# Altium footprint library Capacitor.PcbLib: 34 footprints (part 2 of 3)
Each footprint in its own frame and in the unit in brackets; x right, y up, seen from the top. Pads: shape width x height; smd on the part's side, far side on the other; paste and mask are expansions set on the pad; w line width, h text height; cw(c..) or ccw(c..) is an arc to the next point about the centre after c.
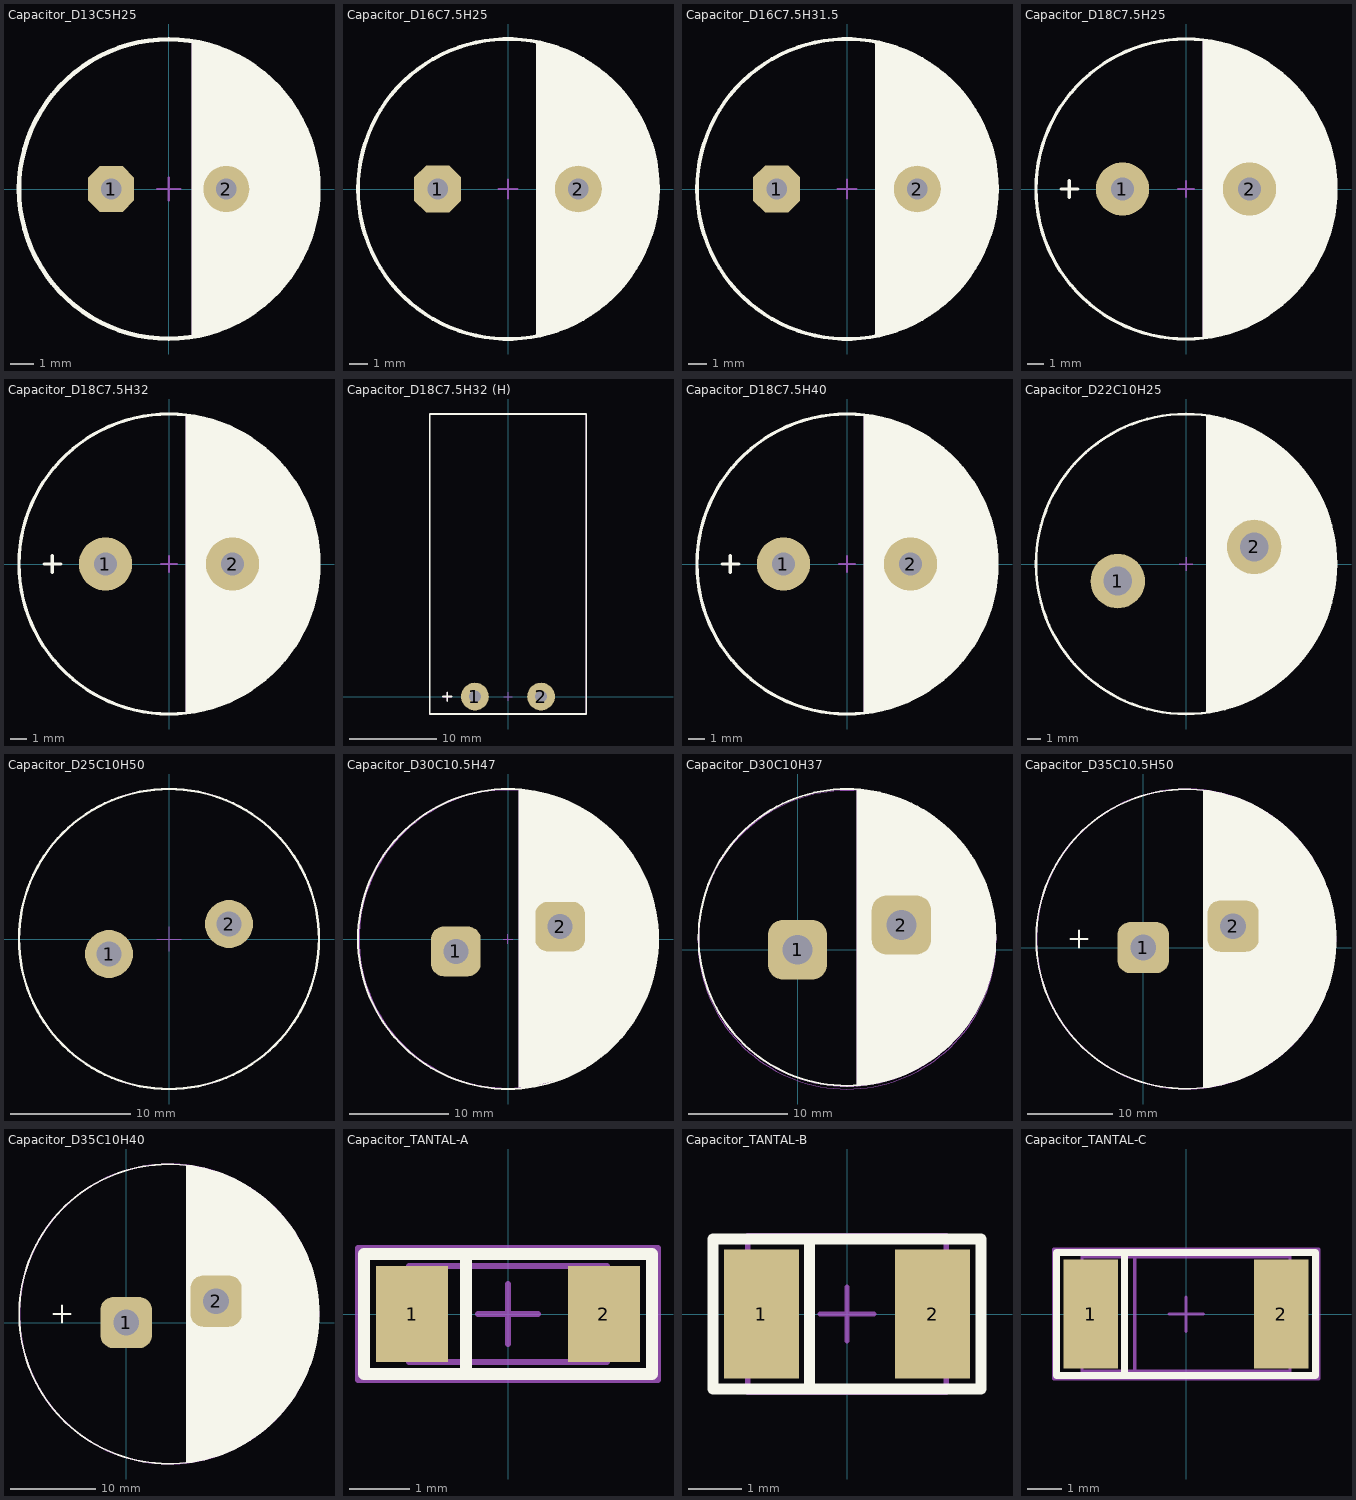
[diagram p1: the footprints below, top view; thin cyan lines are the x and y axes]

## Capacitor_D13C5H25 [mm]
height 25
pads (2):
  oct 2x2 hole 0.9: 1(-2.5,0)
  round 2 hole 0.9: 2(2.5,0)
Top Overlay:
  circle w0.2: c0,0 r6.5
  region: 1,-6.4 1,6.4 2.15,6.15 3.3,5.625 4.3,4.9 5.05,4.125 5.85,2.85 6.175,2.025 6.525,0.525 6.375,-1.325 5.95,-2.65 5.375,-3.625 4.625,-4.575 3.875,-5.2 3.175,-5.65 2.425,-6.025 1.5,-6.325 1.025,-6.4
Mechanical 1:
  circle w0.1: c0,0 r6.5
  region: 1,-6.4 1,6.4 2.15,6.15 3.3,5.625 4.3,4.9 5.05,4.125 5.85,2.85 6.175,2.025 6.525,0.525 6.375,-1.325 5.95,-2.65 5.375,-3.625 4.625,-4.575 3.875,-5.2 3.175,-5.65 2.425,-6.025 1.5,-6.325 1.025,-6.4
Mechanical 15:
  circle w0.1: c0,0 r6.5
  lines w0.1: -0.5,0 0.5,0 ; 0,-0.5 0,0.5
3D body "User Library-Cap-EL(13x25-5).STEP": height 25, standoff -3.3, extent -6.5,-6.499 6.502,6.499

## Capacitor_D16C7.5H25 [mm]
height 25
pads (2):
  oct 2.5x2.5 hole 1.1: 1(-3.75,0)
  round 2.5 hole 1.1: 2(3.75,0)
Top Overlay:
  circle w0.2: c0,0 r8
  region: 1.5,7.85 2.1,7.75 2.85,7.5 4.175,6.825 5.375,5.95 6.2,5.05 7.075,3.8 7.525,2.75 7.875,1.425 8,0 7.875,-1.375 7.725,-2.25 7.075,-3.75 6.65,-4.45 6.025,-5.25 5.475,-5.85 4.7,-6.475 3.975,-6.95 3.175,-7.35 2.3,-7.675 1.5,-7.85
Mechanical 1:
  circle w0.1: c0,0 r8
  region: 1.5,7.85 2.1,7.75 2.85,7.5 4.175,6.825 5.375,5.95 6.2,5.05 7.075,3.8 7.525,2.75 7.875,1.425 8,0 7.875,-1.375 7.725,-2.25 7.075,-3.75 6.65,-4.45 6.025,-5.25 5.475,-5.85 4.7,-6.475 3.975,-6.95 3.175,-7.35 2.3,-7.675 1.5,-7.85
Mechanical 15:
  circle w0.1: c0,0 r8
  lines w0.1: -0.5,0 0.5,0 ; 0,-0.5 0,0.5
3D body "User Library-CapAluRadial_D160H250.STEP": height 27, standoff -3, extent -8.25,-8.249 8.25,8.249

## Capacitor_D16C7.5H31.5 [mm]
height 31.5
pads (2):
  oct 2.5x2.5 hole 1.1: 1(-3.75,0)
  round 2.5 hole 1.1: 2(3.75,0)
Top Overlay:
  circle w0.2: c0,0 r8
  region: 1.5,7.85 2.1,7.75 2.85,7.5 4.175,6.825 5.375,5.95 6.2,5.05 7.075,3.8 7.525,2.75 7.875,1.425 8,0 7.875,-1.375 7.725,-2.25 7.075,-3.75 6.65,-4.45 6.025,-5.25 5.475,-5.85 4.7,-6.475 3.975,-6.95 3.175,-7.35 2.3,-7.675 1.5,-7.85
Mechanical 1:
  circle w0.1: c0,0 r8
  region: 1.5,7.85 2.1,7.75 2.85,7.5 4.175,6.825 5.375,5.95 6.2,5.05 7.075,3.8 7.525,2.75 7.875,1.425 8,0 7.875,-1.375 7.725,-2.25 7.075,-3.75 6.65,-4.45 6.025,-5.25 5.475,-5.85 4.7,-6.475 3.975,-6.95 3.175,-7.35 2.3,-7.675 1.5,-7.85
Mechanical 15:
  circle w0.1: c0,0 r8
  lines w0.1: -0.5,0 0.5,0 ; 0,-0.5 0,0.5
3D body "User Library-CapAluRadial_D160H315.STEP": height 33.5, standoff -3, extent -8.25,-8.25 8.25,8.249

## Capacitor_D18C7.5H25 [mm]
height 40
pads (2):
  round 3.2 hole 1.4: 1(-3.81,0) 2(3.81,0)
Top Overlay:
  circle w0.2: c0,0 r9
  region: 1,8.9 1.3,8.9 2.125,8.75 3.575,8.3 4.625,7.725 5.975,6.725 6.675,6.05 7.3,5.25 7.9,4.35 8.425,3.2 8.875,1.575 9,0.475 8.95,-0.85 8.8,-1.9 8.45,-3.15 7.975,-4.175 7.375,-5.125 6.65,-6.05 5.775,-6.9 5,-7.525 3.725,-8.175 2.35,-8.7 1.25,-8.925 1,-8.925
  lines w0.2: -7.5,0 -6.5,0 ; -7,-0.5 -7,0.5
Mechanical 1:
  circle w0.1: c0,0 r9
  region: 1,8.9 1.3,8.9 2.125,8.75 3.575,8.3 4.625,7.725 5.975,6.725 6.675,6.05 7.3,5.25 7.9,4.35 8.425,3.2 8.875,1.575 9,0.475 8.95,-0.85 8.8,-1.9 8.45,-3.15 7.975,-4.175 7.375,-5.125 6.65,-6.05 5.775,-6.9 5,-7.525 3.725,-8.175 2.35,-8.7 1.25,-8.925 1,-8.925
  lines w0.1: -7.5,0 -6.5,0 ; -7,-0.5 -7,0.5
Mechanical 15:
  circle w0.1: c0,0 r9
  lines w0.1: -0.5,0 0.5,0 ; 0,-0.5 0,0.5
3D body "User Library-CapAluRadial_D180H250P75.STEP": height 25.1, standoff -2.9, extent -9,-8.999 9.001,8.999

## Capacitor_D18C7.5H32 [mm]
height 40
pads (2):
  round 3.2 hole 1.4: 1(-3.81,0) 2(3.81,0)
Top Overlay:
  circle w0.2: c0,0 r9
  region: 1,8.9 1.3,8.9 2.125,8.75 3.575,8.3 4.625,7.725 5.975,6.725 6.675,6.05 7.3,5.25 7.9,4.35 8.425,3.2 8.875,1.575 9,0.475 8.95,-0.85 8.8,-1.9 8.45,-3.15 7.975,-4.175 7.375,-5.125 6.65,-6.05 5.775,-6.9 5,-7.525 3.725,-8.175 2.35,-8.7 1.25,-8.925 1,-8.925
  lines w0.2: -7.5,0 -6.5,0 ; -7,-0.5 -7,0.5
Mechanical 1:
  circle w0.1: c0,0 r9
  region: 1,8.9 1.3,8.9 2.125,8.75 3.575,8.3 4.625,7.725 5.975,6.725 6.675,6.05 7.3,5.25 7.9,4.35 8.425,3.2 8.875,1.575 9,0.475 8.95,-0.85 8.8,-1.9 8.45,-3.15 7.975,-4.175 7.375,-5.125 6.65,-6.05 5.775,-6.9 5,-7.525 3.725,-8.175 2.35,-8.7 1.25,-8.925 1,-8.925
  lines w0.1: -7.5,0 -6.5,0 ; -7,-0.5 -7,0.5
Mechanical 15:
  circle w0.1: c0,0 r9
  lines w0.1: -0.5,0 0.5,0 ; 0,-0.5 0,0.5
3D body "User Library-CapAluRadial_D180H315P75.STEP": height 31.5, standoff -3, extent -9,-9 9.001,9

## Capacitor_D18C7.5H32 (H) [mm]
height 40
pads (2):
  round 3.2 hole 1.4: 1(-3.81,0) 2(3.81,0)
Top Overlay:
  lines w0.2: -7.5,0 -6.5,0 ; -7,-0.5 -7,0.5 ; -9,-2 -9,32.5 9,32.5 9,-2 -9,-2
Mechanical 1:
  lines w0.1: -7.5,0 -6.5,0 ; -7,-0.5 -7,0.5 ; -9,-2 9,-2 9,32.5 -9,32.5 -9,-2
Mechanical 15:
  lines w0.1: -0.5,0 0.5,0 ; 0,-0.5 0,0.5 ; -9,-2 -9,32.5 9,32.5 9,-2 -9,-2
3D body "User Library-CapAluRadial_D180H315P75.STEP": height 18.1, standoff 0.1, extent -9.001,-2 9.001,32.501

## Capacitor_D18C7.5H40 [mm]
height 40
pads (2):
  round 3.2 hole 1.4: 1(-3.81,0) 2(3.81,0)
Top Overlay:
  circle w0.2: c0,0 r9
  region: 1,8.9 1.3,8.9 2.125,8.75 3.575,8.3 4.625,7.725 5.975,6.725 6.675,6.05 7.3,5.25 7.9,4.35 8.425,3.2 8.875,1.575 9,0.475 8.95,-0.85 8.8,-1.9 8.45,-3.15 7.975,-4.175 7.375,-5.125 6.65,-6.05 5.775,-6.9 5,-7.525 3.725,-8.175 2.35,-8.7 1.25,-8.925 1,-8.925
  lines w0.2: -7.5,0 -6.5,0 ; -7,-0.5 -7,0.5
Mechanical 1:
  circle w0.1: c0,0 r9
  region: 1,8.9 1.3,8.9 2.125,8.75 3.575,8.3 4.625,7.725 5.975,6.725 6.675,6.05 7.3,5.25 7.9,4.35 8.425,3.2 8.875,1.575 9,0.475 8.95,-0.85 8.8,-1.9 8.45,-3.15 7.975,-4.175 7.375,-5.125 6.65,-6.05 5.775,-6.9 5,-7.525 3.725,-8.175 2.35,-8.7 1.25,-8.925 1,-8.925
  lines w0.1: -7.5,0 -6.5,0 ; -7,-0.5 -7,0.5
Mechanical 15:
  circle w0.1: c0,0 r9
  lines w0.1: -0.5,0 0.5,0 ; 0,-0.5 0,0.5
3D body "User Library-Cap-EL(18x40-7_5)T.STEP": height 41, standoff -3, extent -9,-8.999 9.002,9

## Capacitor_D22C10H25 [mm]
height 25
pads (2):
  round 4 hole 2.1: 1(-5,-1.25) 2(5,1.25)
Top Overlay:
  circle w0.2: c0,0 r11
  region: 1.5,-10.9 1.5,10.9 3.275,10.5 4.4,10.075 5.45,9.55 6.475,8.9 7.7,7.875 8.575,6.875 9.425,5.7 10.175,4.25 10.625,2.825 10.9,1.575 10.975,0.35 10.975,-0.825 10.65,-2.75 10.05,-4.425 9.375,-5.725 8.075,-7.525 7.25,-8.25 6.275,-9.05 4.925,-9.875 3.975,-10.275 2.825,-10.625 1.975,-10.825
Mechanical 1:
  circle w0.1: c0,0 r11
  region: 1.5,-10.9 1.5,10.9 3.275,10.5 4.4,10.075 5.45,9.55 6.475,8.9 7.7,7.875 8.575,6.875 9.425,5.7 10.175,4.25 10.625,2.825 10.9,1.575 10.975,0.35 10.975,-0.825 10.65,-2.75 10.05,-4.425 9.375,-5.725 8.075,-7.525 7.25,-8.25 6.275,-9.05 4.925,-9.875 3.975,-10.275 2.825,-10.625 1.975,-10.825
Mechanical 15:
  circle w0.1: c0,0 r11
  lines w0.1: -0.5,0 0.5,0 ; 0,-0.5 0,0.5
3D body "Конденсатор H25хD22хL10.step": height 25.05, standoff -3.75, extent -14.099,-14.099 14.099,14.099

## Capacitor_D25C10H50 [mm]
height 37
pads (2):
  round 4 hole 2.1: 1(-5,-1.25) 2(5,1.25)
Top Overlay:
  circle w0.2: c0,0 r12.5
Mechanical 1:
  circle w0.1: c0,0 r12.5
Mechanical 15:
  circle w0.1: c0,0 r12.5
  lines w0.1: -1,0 1,0 ; 0,-1 0,1
3D body "User Library-Cap 25x50.STEP": height 50, standoff 0, extent -12.5,-12.5 12.5,12.5

## Capacitor_D30C10.5H47 [mm]
height 37
pads (2):
  rrect50% 5x5 hole 2.5: 1(-5.25,-1.25) 2(5.25,1.25)
Top Overlay:
  circle w0.2: c0,0 r15.1
  region: 1.1,-14.988 1.1,15.105 3.134,14.784 5.675,13.937 7.7,12.962 8.55,12.412 9.675,11.562 10.75,10.562 11.55,9.687 12.15,8.988 13.225,7.312 13.85,6.013 14.325,4.812 14.8,3.062 15.05,1.312 15.1,0.012 15,-1.663 14.75,-3.213 14.35,-4.713 13.85,-5.988 13.1,-7.462 12.35,-8.662 11,-10.288 9.75,-11.488 8.45,-12.462 7.025,-13.313 6.125,-13.738 4.975,-14.188 3.725,-14.538 2.3,-14.9
Mechanical 1:
  circle w0.1: c0,0 r15.05
  region: 1.1,-14.988 1.1,15.037 3.425,14.689 5.217,14.158 7.7,12.962 8.55,12.412 9.675,11.562 10.75,10.562 11.55,9.687 12.15,8.988 13.225,7.312 13.85,6.013 14.325,4.812 14.8,3.062 15.05,1.312 15.1,0.012 15,-1.663 14.75,-3.213 14.35,-4.713 13.85,-5.988 13.1,-7.462 12.35,-8.662 11,-10.288 9.75,-11.488 8.45,-12.462 7.025,-13.313 6.125,-13.738 4.975,-14.188 3.725,-14.538 2.3,-14.9
Mechanical 15:
  circle w0.1: c0,0 r15
  lines w0.1: -0.5,0 0.5,0 ; 0,-0.5 0,0.5
3D body "Capacitor D30C10H47.STEP": height 47, standoff 0, extent -15,-15 15,15

## Capacitor_D30C10H37 [mm]
height 37
pads (2):
  rrect50% 6x6 hole 3: 1(0,0) 2(10.5,2.5)
Top Overlay:
  circle w0.2: c5,1.25 r15
  region: 6,-13.8 6,16.205 8.532,15.806 10.575,15.125 12.6,14.15 13.45,13.6 14.575,12.75 15.65,11.75 16.45,10.875 17.05,10.175 18.125,8.5 18.75,7.2 19.225,6 19.7,4.25 19.95,2.5 20,1.2 19.9,-0.475 19.65,-2.025 19.25,-3.525 18.75,-4.8 18,-6.275 17.25,-7.475 15.9,-9.1 14.65,-10.3 13.35,-11.275 11.925,-12.125 11.025,-12.55 9.875,-13 8.625,-13.35 7.6,-13.55 6.025,-13.775
Mechanical 1:
  circle w0.1: c5,1.2 r15
  region: 6,-13.8 6,16.175 8.7,15.75 10.575,15.125 12.6,14.15 13.45,13.6 14.575,12.75 15.65,11.75 16.45,10.875 17.05,10.175 18.125,8.5 18.75,7.2 19.225,6 19.7,4.25 19.95,2.5 20,1.2 19.9,-0.475 19.65,-2.025 19.25,-3.525 18.75,-4.8 18,-6.275 17.25,-7.475 15.9,-9.1 14.65,-10.3 13.35,-11.275 11.925,-12.125 11.025,-12.55 9.875,-13 8.625,-13.35 7.6,-13.55 6.025,-13.775
Mechanical 15:
  circle w0.1: c5,1 r15.075
3D body "User Library-Assy_CE_R400_D1200_H1450.STEP": height 36.83, standoff -6.89, extent -12.7,-16.473 22.61,18.836

## Capacitor_D35C10.5H50 [mm]
height 50
pads (2):
  rrect50% 6x6 hole 3: 1(0,0) 2(10.5,2.5)
Top Overlay:
  circle w0.2: c5,1 r17.5
  region: 7,18.3 7.525,18.3 8.625,18.075 10,17.75 11.25,17.3 12.625,16.725 13.875,16.05 15.225,15.175 16.2,14.45 17.35,13.35 18.45,12.15 19.25,11.125 19.7,10.425 20.425,9.2 20.925,8.15 21.375,7.075 21.875,5.525 22.125,4.375 22.375,2.675 22.45,1.25 22.425,-0.025 22.325,-1.15 22.175,-2.2 21.725,-4.1 21.4,-5.025 20.525,-7.025 19.275,-9.05 18.4,-10.2 17.125,-11.55 15.65,-12.85 13.756,-14.143 11.88,-15.09 10.8,-15.45 9.025,-16.025 7.5,-16.3 7,-16.35
  lines w0.2: -8.5,1 -6.5,1 ; -7.5,0 -7.5,2
Mechanical 1:
  circle w0.1: c5,1 r17.464
  region: 7,18.3 7.525,18.3 8.625,18.075 10,17.75 11.25,17.3 12.625,16.725 13.875,16.05 15.225,15.175 16.2,14.45 17.35,13.35 18.45,12.15 19.25,11.125 19.7,10.425 20.425,9.2 20.925,8.15 21.375,7.075 21.875,5.525 22.125,4.375 22.375,2.675 22.45,1.25 22.425,-0.025 22.325,-1.15 22.175,-2.2 21.725,-4.1 21.4,-5.025 20.525,-7.025 19.275,-9.05 18.4,-10.2 17.125,-11.55 15.65,-12.85 13.756,-14.143 11.88,-15.09 10.8,-15.45 9.025,-16.025 7.5,-16.3 7,-16.35
  lines w0.1: -8.5,1 -6.5,1 ; -7.5,0 -7.5,2
Mechanical 15:
  circle w0.1: c5,1 r17.529
3D body "User Library-el_cap_470uF-400V.STEP": height 46.7, standoff -3.5, extent -15.756,-19.756 25.756,21.756

## Capacitor_D35C10H40 [mm]
height 50
pads (2):
  rrect50% 6x6 hole 3: 1(0,0) 2(10.5,2.5)
Top Overlay:
  circle w0.2: c5,1 r17.5
  region: 7,18.3 7.525,18.3 8.625,18.075 10,17.75 11.25,17.3 12.625,16.725 13.875,16.05 15.225,15.175 16.2,14.45 17.35,13.35 18.45,12.15 19.25,11.125 19.7,10.425 20.425,9.2 20.925,8.15 21.375,7.075 21.875,5.525 22.125,4.375 22.375,2.675 22.45,1.25 22.425,-0.025 22.325,-1.15 22.175,-2.2 21.725,-4.1 21.4,-5.025 20.525,-7.025 19.275,-9.05 18.4,-10.2 17.125,-11.55 15.65,-12.85 13.756,-14.143 11.88,-15.09 10.8,-15.45 9.025,-16.025 7.5,-16.3 7,-16.35
  lines w0.2: -8.5,1 -6.5,1 ; -7.5,0 -7.5,2
Mechanical 1:
  circle w0.1: c5,1 r17.464
  region: 7,18.3 7.525,18.3 8.625,18.075 10,17.75 11.25,17.3 12.625,16.725 13.875,16.05 15.225,15.175 16.2,14.45 17.35,13.35 18.45,12.15 19.25,11.125 19.7,10.425 20.425,9.2 20.925,8.15 21.375,7.075 21.875,5.525 22.125,4.375 22.375,2.675 22.45,1.25 22.425,-0.025 22.325,-1.15 22.175,-2.2 21.725,-4.1 21.4,-5.025 20.525,-7.025 19.275,-9.05 18.4,-10.2 17.125,-11.55 15.65,-12.85 13.756,-14.143 11.88,-15.09 10.8,-15.45 9.025,-16.025 7.5,-16.3 7,-16.35
  lines w0.1: -8.5,1 -6.5,1 ; -7.5,0 -7.5,2
Mechanical 15:
  circle w0.1: c5,1 r17.529
3D body "Capacitor D35H40.STEP": height 40, standoff 0, extent -13,-17 23,19

## Capacitor_TANTAL-A [mm]
height 1.6
pads (2):
  rect 1.2x1.6 smd: 1(-1.6,0) 2(1.6,0)
Top Overlay:
  lines w0.2: -0.7,-1 -0.7,1 ; -2.4,-1 -2.4,1 2.4,1 2.4,-1 -2.4,-1
Mechanical 1:
  lines w0.1: -0.7,-0.8 -0.7,0.8 ; -1.651,-0.8 -1.651,0.8 1.651,0.8 1.651,-0.8 -1.651,-0.8
Mechanical 15:
  lines w0.1: -0.5,0 0.5,0 ; 0,-0.5 0,0.5 ; -2.5,-1.1 2.5,-1.1 2.5,1.1 -2.5,1.1 -2.5,-1.1
3D body "User Library-AVX_ACASE.STEP": height 1.71, standoff 0, extent -1.7,-0.84 1.7,0.84

## Capacitor_TANTAL-B [mm]
height 1.9
pads (2):
  rect 1.4x2.4 smd: 1(-1.6,0) 2(1.6,0)
Top Overlay:
  lines w0.2: -0.7,-1.4 -0.7,1.3 ; -2.5,-1.4 2.5,-1.4 2.5,1.4 -2.5,1.4 -2.5,-1.4
Mechanical 1:
  lines w0.1: -0.7,-1.465 -0.7,1.465 ; -1.85,-1.465 1.85,-1.465 1.85,1.465 -1.85,1.465 -1.85,-1.465
Mechanical 15:
  lines w0.1: -0.5,0 0.5,0 ; 0,-0.5 0,0.5 ; -2.5,-1.4 -2.5,1.4 2.5,1.4 2.5,-1.4 -2.5,-1.4
3D body "User Library-AVX_BCASE.STEP": height 2.03, standoff 0, extent -1.85,-1.465 1.85,1.465

## Capacitor_TANTAL-C [mm]
height 2.5
pads (2):
  rect 1.6x3.2 smd: 1(-2.8,0) 2(2.8,0)
Top Overlay:
  lines w0.2: -1.8,-1.8 -1.8,1.8 ; -3.8,-1.8 3.8,-1.8 3.8,1.8 -3.8,1.8 -3.8,-1.8
Mechanical 1:
  lines w0.1: -1.5,-1.675 -1.5,1.675 ; -3.05,-1.675 -3.05,1.675 3.05,1.675 3.05,-1.675 -3.05,-1.675
Mechanical 15:
  lines w0.1: -0.5,0 0.5,0 ; 0,-0.5 0,0.5 ; -3.875,-1.9 -3.875,1.9 3.9,1.9 3.9,-1.9 -3.875,-1.9
3D body "User Library-AVX_C_CASE.STEP": height 2.7, standoff 0, extent -3.05,-1.675 3.05,1.675